# Altium schematic symbol library SCH - MCU - STM32 - ST MICROELECTRONICS STM32H503KBUX UFQFPN32.SchLib: 1 symbol
Pins are listed as number, name and electrical type; pins without a type are passive.

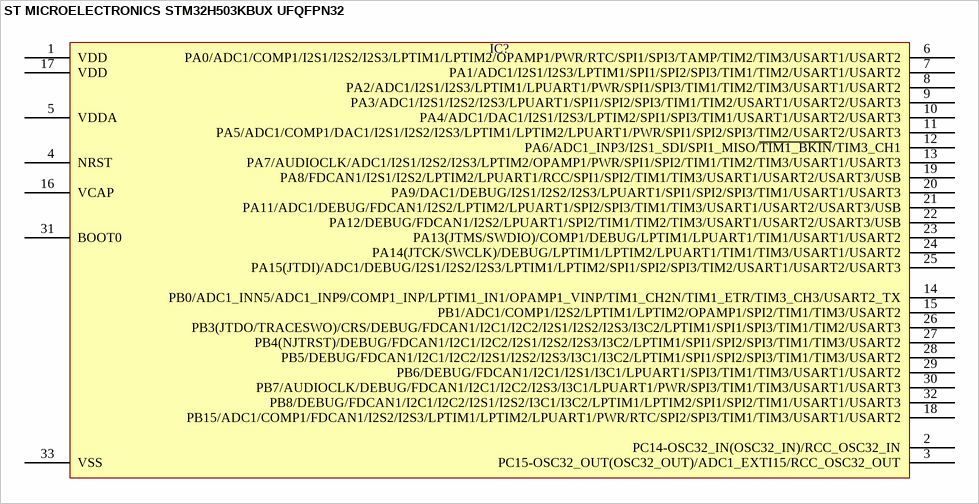
[diagram p0: symbol ST MICROELECTRONICS STM32H503KBUX UFQFPN32]

## ST MICROELECTRONICS STM32H503KBUX UFQFPN32
designator IC?  (value not drawn)
pins: 1 VDD, 2 PC14-OSC32_IN(OSC32_IN)/RCC_OSC32_IN, 3 PC15-OSC32_OUT(OSC32_OUT)/ADC1_EXTI15/RCC_OSC32_OUT, 4 NRST, 5 VDDA, 6 PA0/ADC1/COMP1/I2S1/I2S2/I2S3/LPTIM1/LPTIM2/OPAMP1/PWR/RTC/SPI1/SPI3/TAMP/TIM2/TIM3/USART1/USART2, 7 PA1/ADC1/I2S1/I2S3/LPTIM1/SPI1/SPI2/SPI3/TIM1/TIM2/USART1/USART2, 8 PA2/ADC1/I2S1/I2S3/LPTIM1/LPUART1/PWR/SPI1/SPI3/TIM1/TIM2/TIM3/USART1/USART2, 9 PA3/ADC1/I2S1/I2S2/I2S3/LPUART1/SPI1/SPI2/SPI3/TIM1/TIM2/USART1/USART2/USART3, 10 PA4/ADC1/DAC1/I2S1/I2S3/LPTIM2/SPI1/SPI3/TIM1/USART1/USART2/USART3, 11 PA5/ADC1/COMP1/DAC1/I2S1/I2S2/I2S3/LPTIM1/LPTIM2/LPUART1/PWR/SPI1/SPI2/SPI3/TIM2/USART2/USART3, 12 PA6/ADC1_INP3/I2S1_SDI/SPI1_MISO/~{TIM1_BKIN}/TIM3_CH1, 13 PA7/AUDIOCLK/ADC1/I2S1/I2S2/I2S3/LPTIM2/OPAMP1/PWR/SPI1/SPI2/TIM1/TIM2/TIM3/USART1/USART3, 14 PB0/ADC1_INN5/ADC1_INP9/COMP1_INP/LPTIM1_IN1/OPAMP1_VINP/TIM1_CH2N/TIM1_ETR/TIM3_CH3/USART2_TX, 15 PB1/ADC1/COMP1/I2S2/LPTIM1/LPTIM2/OPAMP1/SPI2/TIM1/TIM3/USART2, 16 VCAP, 17 VDD, 18 PB15/ADC1/COMP1/FDCAN1/I2S2/I2S3/LPTIM1/LPTIM2/LPUART1/PWR/RTC/SPI2/SPI3/TIM1/TIM3/USART1/USART2, 19 PA8/FDCAN1/I2S1/I2S2/LPTIM2/LPUART1/RCC/SPI1/SPI2/TIM1/TIM3/USART1/USART2/USART3/USB, 20 PA9/DAC1/DEBUG/I2S1/I2S2/I2S3/LPUART1/SPI1/SPI2/SPI3/TIM1/USART1/USART3, 21 PA11/ADC1/DEBUG/FDCAN1/I2S2/LPTIM2/LPUART1/SPI2/SPI3/TIM1/TIM3/USART1/USART2/USART3/USB, 22 PA12/DEBUG/FDCAN1/I2S2/LPUART1/SPI2/TIM1/TIM2/TIM3/USART1/USART2/USART3/USB, 23 PA13(JTMS/SWDIO)/COMP1/DEBUG/LPTIM1/LPUART1/TIM1/USART1/USART2, 24 PA14(JTCK/SWCLK)/DEBUG/LPTIM1/LPTIM2/LPUART1/TIM1/TIM3/USART1/USART2, 25 PA15(JTDI)/ADC1/DEBUG/I2S1/I2S2/I2S3/LPTIM1/LPTIM2/SPI1/SPI2/SPI3/TIM2/USART1/USART2/USART3, 26 PB3(JTDO/TRACESWO)/CRS/DEBUG/FDCAN1/I2C1/I2C2/I2S1/I2S2/I2S3/I3C2/LPTIM1/SPI1/SPI3/TIM1/TIM2/USART3, 27 PB4(NJTRST)/DEBUG/FDCAN1/I2C1/I2C2/I2S1/I2S2/I2S3/I3C2/LPTIM1/SPI1/SPI2/SPI3/TIM1/TIM3/USART2, 28 PB5/DEBUG/FDCAN1/I2C1/I2C2/I2S1/I2S2/I2S3/I3C1/I3C2/LPTIM1/SPI1/SPI2/SPI3/TIM1/TIM3/USART2, 29 PB6/DEBUG/FDCAN1/I2C1/I2S1/I3C1/LPUART1/SPI3/TIM1/TIM3/USART1/USART2, 30 PB7/AUDIOCLK/DEBUG/FDCAN1/I2C1/I2C2/I2S3/I3C1/LPUART1/PWR/SPI3/TIM1/TIM3/USART1/USART3, 31 BOOT0, 32 PB8/DEBUG/FDCAN1/I2C1/I2C2/I2S1/I2S2/I3C1/I3C2/LPTIM1/LPTIM2/SPI1/SPI2/TIM1/USART1/USART3, 33 VSS